# EAGLE library part MUSB-5BF01AS (library MUSB-5BF01AS)
Board mounting USB connector, mini B, female Source: Datasheet <http://akizukidenshi.com/download/ds/useconn/c2235_dim_2.pdf>
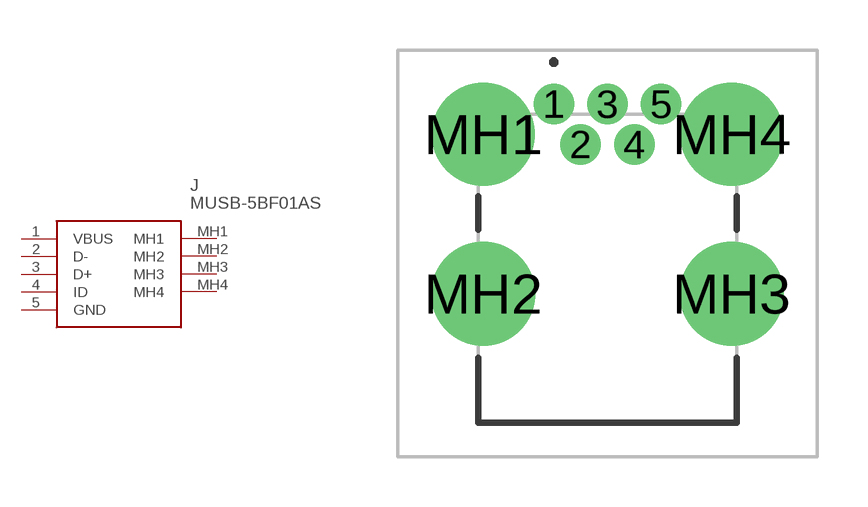
[diagram p0: symbol with the pads of MUSB5BF01AS; footprint MUSB5BF01AS]

Designator prefix J

## MUSB-5BF01AS (Description: Board mounting USB connector, mini B, female; Height: 4.05mm; Manufacturer_Name: Akizuki Denshi Tsusho; Manufacturer_Part_Number: MUSB-5BF01AS)  [MUSB5BF01AS]
1  VBUS
2  D-
3  D+
4  ID
5  GND
MH1  MH1
MH2  MH2
MH3  MH3
MH4  MH4

## Footprint MUSB5BF01AS (pad centres in mm)
MUSB-5BF01AS-1
drill 0.7 pad 1.2: 1 -1.6,0; 2 -0.8,-1.2; 3 0,0; 4 0.8,-1.2; 5 1.6,0
drill 2.06 pad 2.95: MH1 -3.7,-0.9; MH4 3.7,-0.9
drill 2.06 pad 3.09: MH2 -3.7,-5.65; MH3 3.7,-5.65